# Altium footprint library OSSI.PCBLIB: 194 footprints (part 7 of 13)
Each footprint in its own frame and in the unit in brackets; x right, y up, seen from the top. Pads: shape width x height; smd on the part's side, far side on the other; paste and mask are expansions set on the pad; w line width, h text height; cw(c..) or ccw(c..) is an arc to the next point about the centre after c.
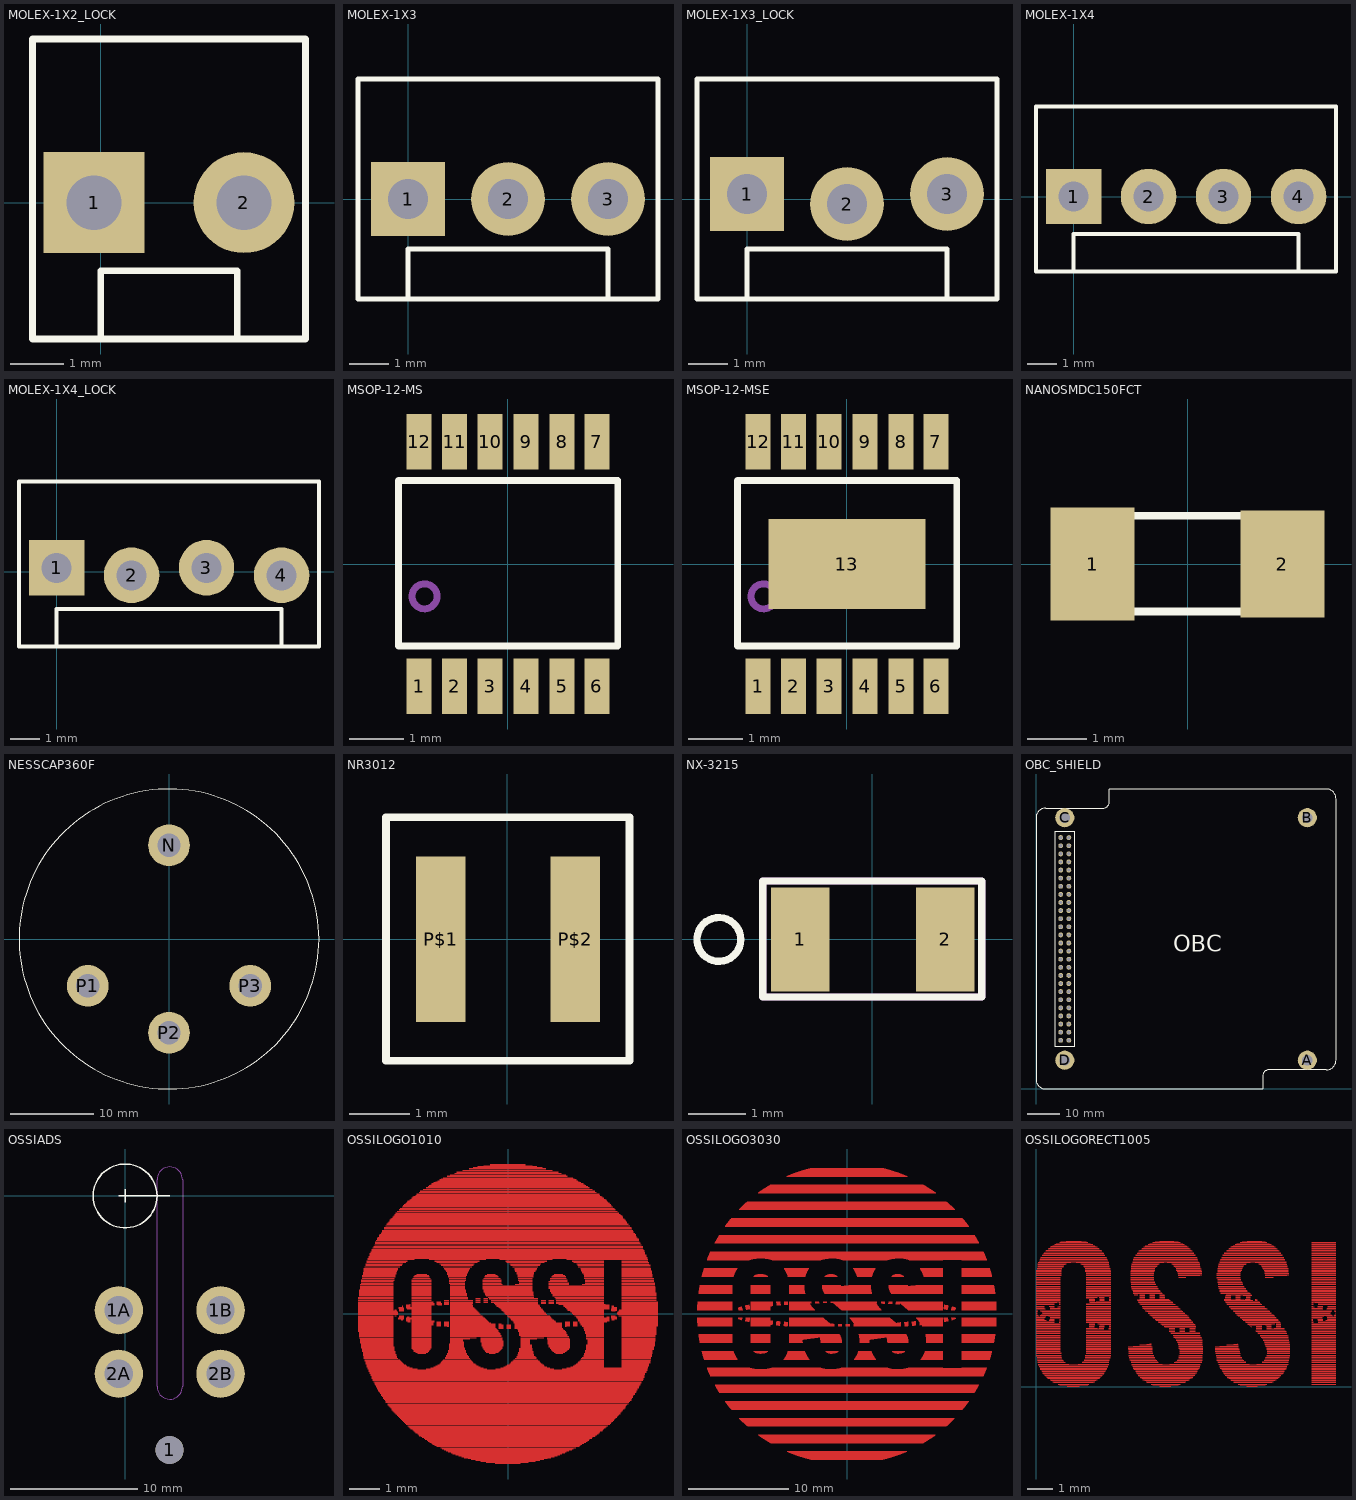
[diagram p6: the footprints below, top view; thin cyan lines are the x and y axes]

## MOLEX-1X2_LOCK [mil]
pads (2):
  rect 74x74 hole 40: 1(-5,0)
  round 74 hole 40: 2(105,0)
Top Overlay:
  lines w5: 0,-100 100,-100 ; 0,-100 -50,-100 -50,120 150,120 150,-100 100,-100 ; 0,-100 0,-50 100,-50 100,-100
Mechanical 16:
  rectangle: -11.5,-11.5 12,12
  rectangle: 89,-11.5 112,12

## MOLEX-1X3 [mil]
pads (3):
  rect 74x74 hole 40: 1(0,0)
  round 74 hole 40: 2(100,0) 3(200,0)
Top Overlay:
  lines w5: 0,-100 200,-100 ; 0,-100 -50,-100 -50,120 250,120 250,-100 200,-100 ; 0,-100 0,-50 200,-50 200,-100

## MOLEX-1X3_LOCK [mil]
pads (3):
  rect 74x74 hole 40: 1(0,5)
  round 74 hole 40: 2(100,-5) 3(200,5)
Top Overlay:
  lines w5: 0,-100 200,-100 ; 0,-100 -50,-100 -50,120 250,120 250,-100 200,-100 ; 0,-100 0,-50 200,-50 200,-100
Mechanical 16:
  rectangle: -11.5,-11.5 12,12
  rectangle: 89,-11.5 112,12
  rectangle: 189,-11.5 212,12

## MOLEX-1X4 [mil]
pads (4):
  rect 74x74 hole 40: 1(0,0)
  round 74 hole 40: 2(100,0) 3(200,0) 4(300,0)
Top Overlay:
  lines w5: 0,-100 300,-100 ; 0,-100 -50,-100 -50,120 350,120 350,-100 300,-100 ; 0,-100 0,-50 300,-50 300,-100

## MOLEX-1X4_LOCK [mil]
pads (4):
  rect 74x74 hole 40: 1(0,5)
  round 74 hole 40: 2(100,-5) 3(200,5) 4(300,-5)
Top Overlay:
  lines w5: 0,-100 300,-100 ; 0,-100 -50,-100 -50,120 350,120 350,-100 300,-100 ; 0,-100 0,-50 300,-50 300,-100

## MSOP-12-MS [mil]
pads (12):
  rect 18x40 smd: 1(-63.98,-87.91) 2(-38.39,-87.91) 3(-12.8,-87.91) 4(13,-87.91) 5(39,-87.91) 6(64,-87.91) 7(64,88) 8(39,88) 9(13,88) 10(-12.8,88) 11(-38.39,88) 12(-63.98,88)
Top Overlay:
  lines w5: -78.74,-59.06 79,-59.06 79,60 -78.74,60 -78.74,-59.06
Mechanical 2:
  text ">NAME" at -98.43,-137.8 h77.5
Mechanical 4:
  circle w5: c-60.04,-23.23 r9
  text ">VALUE" at 138,-137.8 h77.5

## MSOP-12-MSE [mil]
pads (13):
  rect 18x40 smd: 1(-63.98,-87.91) 2(-38.39,-87.91) 3(-12.8,-87.91) 4(13,-87.91) 5(39,-87.91) 6(64,-87.91) 7(64,88) 8(39,88) 9(13,88) 10(-12.8,88) 11(-38.39,88) 12(-63.98,88)
  rect 113x65 smd: 13(0,0)
Top Overlay:
  lines w5: -78.74,-59.06 79,-59.06 79,60 -78.74,60 -78.74,-59.06
Mechanical 2:
  text ">NAME" at -98.43,-137.8 h77.5
Mechanical 4:
  circle w5: c-60.04,-23.23 r9
  text ">VALUE" at 138,-137.8 h77.5

## NANOSMDC150FCT [mil]
pads (2):
  rect 56x75 smd: 1(-62.99,0)
  rect 56x71 smd: 2(63,0)
Top Overlay:
  lines w5: -62.99,-31.5 63,-31.5 63,32 -62.99,32 -62.99,-31.5
Mechanical 2:
  text ">NAME" at -200,-150 h77.5
Mechanical 4:
  text ">VALUE" at -200,-225 h77.5

## NESSCAP360F [mil]
pads (4):
  round 197 hole 111: N(0,443) P1(-383.46,-221.46) P2(0,-442.91) P3(384,-221.46)
Top Overlay:
  circle w5: c0,0 r709
Mechanical 2:
  text ">NAME" at -125,0 h77.5
Mechanical 4:
  text ">VALUE" at -125,-50 h77.5

## NR3012 [mil]
pads (2):
  rect 32x107 smd: P$1(-43.31,0) P$2(44,0)
Top Overlay:
  lines w5: -78.74,-78.74 79,-78.74 79,79 -78.74,79 -78.74,-78.74
Mechanical 2:
  text ">NAME" at -125,100 h77.5
Mechanical 4:
  text ">VALUE" at -125,-150 h77.5

## NX-3215 [mil]
pads (2):
  rect 40x71 smd: 1(-49.21,0) 2(50,0)
Top Overlay:
  circle w5: c-105,0 r15
  lines w5: -75,-39.37 75,-39.37 75,40 -75,40 -75,-39.37
Mechanical 2:
  text ">NAME" at -100,150 h108.5
Mechanical 4:
  text ">VALUE" at -100,75 h108.5
Mechanical 27:
  lines w5: -75,-39.37 75,-39.37 75,40 -75,40 -75,-39.37
Mechanical 28:
  lines w5: -75,-39.37 75,-39.37 75,40 -75,40 -75,-39.37

## OBC_SHIELD [mil]
pads (56):
  round 60 hole 40: 1(405,601) 2(305,601) 3(405,701) 4(305,701) 5(405,801) 6(305,801) 7(405,901) 8(305,901) 9(405,1001) 10(305,1001) 11(405,1101) 12(305,1101) 13(405,1201) 14(305,1201) 15(405,1301) 16(305,1301) 17(405,1401) 18(305,1401) 19(405,1501) 20(305,1501) 21(405,1601) 22(305,1601) 23(405,1701) 24(305,1701) 25(405,1801) 26(305,1801) 27(405,1901) 28(305,1901) 29(405,2001) 30(305,2001) 31(405,2101) 32(305,2101) 33(405,2201) 34(305,2201) 35(405,2301) 36(305,2301) 37(405,2401) 38(305,2401) 39(405,2501) 40(305,2501) 41(405,2601) 42(305,2601) 43(405,2701) 44(305,2701) 45(405,2801) 46(305,2801) 47(405,2901) 48(305,2901) 49(405,3001) 50(305,3001) 51(405,3101) 52(305,3101)
  round 237 hole 126: A(3347,355) B(3347,3347) C(355,3347) D(355,355)
Top Overlay:
  lines w0: 0,119 0,3347 cw(c118.5,3346.5) 119,3465 827,3465 ccw(c827,3544) 906,3544 906,3701 3583,3701 cw(c3583,3583) 3701,3583 3701,355 cw(c3583,355) 3583,237 2875,237 ccw(c2875,158) 2796,158 2796,0 119,0 cw(c119,119) 0,119
  lines w10: 237,521 472,521 472,3181 237,3181 237,521
  text "OBC" at 1693,1693 h201.45

## OSSIADS [mil]
pads (5):
  round 87 hole 87: 1(138,-787.4)
  round 150 hole 87: 1A(-19.68,-354.33) 1B(296,-354.33) 2A(-19.68,-551.18) 2B(296,-551.18)
Top Overlay:
  circle w4: c0,0 r99
  lines w4: -19.68,0 0,0 ; 0,-19.68 0,0 ; 0,20 0,0 ; 138,0 0,0
Mechanical 1:
  lines w0: 99,-590.55 ccw(c138.19,-590.74) 138,-629.92 ccw(c138.31,-590.24) 178,-590.55 178,50 ccw(c138,50) 138,90 ccw(c138.5,50.5) 99,50 99,-590.55
Mechanical 2:
  text ">NAME" at -50,-950 h108.5
Mechanical 4:
  text ">VALUE" at -50,-1050 h108.5

## OSSILOGO1010 [mil]
Top Layer:
  rectangle: -17.61,-197.48 16,-196.22
  rectangle: -28.93,-196.22 27,-194.96
  rectangle: -36.48,-194.96 36,-193.7
  rectangle: -42.77,-193.7 42,-192.45
  rectangle: -49.06,-192.45 47,-191.19
  rectangle: -52.83,-191.19 52,-189.93
  rectangle: -57.86,-189.93 56,-188.67
  rectangle: -61.63,-188.67 61,-187.42
  rectangle: -65.41,-187.42 65,-186.16
  rectangle: -69.18,-186.16 68,-184.9
  rectangle: -72.95,-184.9 71,-183.64
  rectangle: -75.47,-183.64 75,-182.39
  rectangle: -79.24,-182.39 77,-181.13
  rectangle: -81.76,-181.13 80,-179.87
  rectangle: -84.28,-179.87 84,-178.61
  rectangle: -86.79,-178.61 86,-177.35
  rectangle: -89.31,-177.35 89,-176.09
  rectangle: -91.82,-176.09 91,-174.84
  rectangle: -94.34,-174.84 94,-173.58
  rectangle: -96.85,-173.58 95,-172.32
  rectangle: -99.37,-172.32 97,-171.06
  rectangle: -100.63,-171.06 100,-169.81
  rectangle: -103.14,-169.81 102,-168.55
  rectangle: -105.66,-168.55 104,-167.29
  rectangle: -106.92,-167.29 106,-166.04
  rectangle: -109.43,-166.04 107,-164.78
  rectangle: -110.69,-164.78 110,-163.52
  rectangle: -113.2,-163.52 111,-162.26
  rectangle: -114.46,-162.26 114,-161
  rectangle: -116.98,-161 115,-159.74
  rectangle: -118.24,-159.74 117,-158.49
  rectangle: -119.49,-158.49 119,-157.23
  rectangle: -122.01,-157.23 120,-155.97
  rectangle: -123.27,-155.97 121,-154.71
  rectangle: -124.52,-154.71 124,-153.46
  rectangle: -125.78,-153.46 125,-152.2
  rectangle: -128.3,-152.2 126,-150.94
  rectangle: -129.56,-150.94 128,-149.68
  rectangle: -130.81,-149.68 129,-148.43
  rectangle: -132.07,-148.43 131,-147.17
  rectangle: -133.33,-147.17 133,-145.91
  rectangle: -134.59,-145.91 134,-144.65
  rectangle: -135.85,-144.65 135,-143.39
  rectangle: -137.1,-143.39 136,-142.13
  rectangle: -138.36,-142.13 138,-140.88
  rectangle: -139.62,-140.88 139,-139.62
  rectangle: -140.88,-139.62 140,-138.36
  rectangle: -142.13,-138.36 141,-137.1
  rectangle: -143.39,-137.1 143,-135.85
  rectangle: -144.65,-135.85 144,-134.59
  rectangle: -145.91,-134.59 145,-133.33
  rectangle: -147.17,-133.33 146,-132.07
  rectangle: -148.43,-132.07 148,-130.81
  rectangle: -149.68,-130.81 148,-129.56
  rectangle: -150.94,-129.56 149,-128.3
  rectangle: -152.2,-128.3 150,-127.04
  rectangle: -153.46,-127.04 151,-125.78
  rectangle: -153.46,-125.78 153,-124.52
  rectangle: -154.71,-124.52 154,-123.27
  rectangle: -155.97,-123.27 154,-122.01
  rectangle: -157.23,-122.01 155,-120.75
  rectangle: -158.49,-120.75 156,-119.49
  rectangle: -158.49,-119.49 158,-118.24
  rectangle: -159.74,-118.24 159,-116.98
  rectangle: -161,-116.98 159,-115.72
  rectangle: -161,-115.72 160,-114.46
  rectangle: -162.26,-114.46 162,-113.2
  rectangle: -163.52,-113.2 162,-111.95
  rectangle: -164.78,-111.95 163,-110.69
  rectangle: -164.78,-110.69 164,-109.43
  rectangle: -166.04,-109.43 164,-108.17
  rectangle: -167.29,-108.17 165,-106.92
  rectangle: -167.29,-106.92 167,-105.66
  rectangle: -168.55,-105.66 167,-104.4
  rectangle: -168.55,-104.4 168,-103.14
  rectangle: -169.81,-103.14 169,-101.89
  rectangle: -171.06,-101.89 169,-100.63
  rectangle: -171.06,-100.63 170,-99.37
  rectangle: -172.32,-99.37 170,-98.11
  rectangle: -172.32,-98.11 172,-96.85
  rectangle: -173.58,-96.85 172,-95.59
  rectangle: -173.58,-95.59 173,-94.34
  rectangle: -174.84,-94.34 174,-93.08
  rectangle: -176.09,-93.08 174,-91.82
  rectangle: -176.09,-91.82 175,-90.56
  rectangle: -177.35,-90.56 175,-89.31
  rectangle: -177.35,-89.31 177,-88.05
  rectangle: -178.61,-88.05 177,-86.79
  rectangle: -178.61,-86.79 178,-85.53
  rectangle: -179.87,-85.53 178,-84.28
  rectangle: -179.87,-84.28 179,-83.02
  rectangle: -179.87,-83.02 179,-81.76
  rectangle: -181.13,-81.76 179,-80.5
  rectangle: -181.13,-80.5 180,-79.24
  rectangle: -182.39,-79.24 180,-77.98
  rectangle: -182.39,-77.98 182,-76.73
  rectangle: -183.64,-76.73 182,-75.47
  rectangle: -183.64,-75.47 183,-74.21
  rectangle: -183.64,-74.21 183,-72.95
  rectangle: -184.9,-72.95 -119.49,-71.7
  rectangle: -108.17,-72.95 -27.67,-71.7
  rectangle: -16.35,-72.95 60,-71.7
  rectangle: 71,-72.95 183,-71.7
  rectangle: -184.9,-71.7 -125.78,-70.44
  rectangle: -101.89,-71.7 -32.7,-70.44
  rectangle: -10.06,-71.7 55,-70.44
  rectangle: 77,-71.7 184,-70.44
  rectangle: -186.16,-70.44 -129.56,-69.18
  rectangle: -98.11,-70.44 -36.48,-69.18
  rectangle: -6.29,-70.44 51,-69.18
  rectangle: 82,-70.44 126,-69.18
  rectangle: 149,-70.44 184,-69.18
  rectangle: -186.16,-69.18 -133.33,-67.92
  rectangle: -95.59,-69.18 -38.99,-67.92
  rectangle: -3.77,-69.18 48,-67.92
  rectangle: 85,-69.18 126,-67.92
  rectangle: 149,-69.18 185,-67.92
  rectangle: -186.16,-67.92 -134.59,-66.67
  rectangle: -93.08,-67.92 -41.51,-66.67
  rectangle: -1.26,-67.92 47,-66.67
  rectangle: 87,-67.92 126,-66.67
  rectangle: 149,-67.92 185,-66.67
  rectangle: -187.42,-66.67 -137.1,-65.41
  rectangle: -90.56,-66.67 -42.77,-65.41
  rectangle: 2,-66.67 45,-65.41
  rectangle: 89,-66.67 126,-65.41
  rectangle: 149,-66.67 185,-65.41
  rectangle: -187.42,-65.41 -138.36,-64.15
  rectangle: -89.31,-65.41 -45.28,-64.15
  rectangle: 3,-65.41 43,-64.15
  rectangle: 91,-65.41 126,-64.15
  rectangle: 149,-65.41 187,-64.15
  rectangle: -187.42,-64.15 -139.62,-62.89
  rectangle: -88.05,-64.15 -46.54,-62.89
  rectangle: 4,-64.15 42,-62.89
  rectangle: 92,-64.15 126,-62.89
  rectangle: 149,-64.15 187,-62.89
  rectangle: -188.67,-62.89 -140.88,-61.63
  rectangle: -86.79,-62.89 -47.8,-61.63
  rectangle: 6,-62.89 41,-61.63
  rectangle: 94,-62.89 126,-61.63
  rectangle: 149,-62.89 187,-61.63
  rectangle: -188.67,-61.63 -142.13,-60.37
  rectangle: -85.53,-61.63 -49.06,-60.37
  rectangle: 7,-61.63 39,-60.37
  rectangle: 95,-61.63 126,-60.37
  rectangle: 149,-61.63 188,-60.37
  rectangle: -188.67,-60.37 -143.39,-59.12
  rectangle: -84.28,-60.37 -49.06,-59.12
  rectangle: 8,-60.37 38,-59.12
  rectangle: 96,-60.37 126,-59.12
  rectangle: 149,-60.37 188,-59.12
  rectangle: -189.93,-59.12 -144.65,-57.86
  rectangle: -83.02,-59.12 -50.31,-57.86
  rectangle: 9,-59.12 37,-57.86
  rectangle: 96,-59.12 126,-57.86
  rectangle: 149,-59.12 188,-57.86
  rectangle: -189.93,-57.86 -145.91,-56.6
  rectangle: -83.02,-57.86 -51.57,-56.6
  rectangle: 11,-57.86 37,-56.6
  rectangle: 97,-57.86 126,-56.6
  rectangle: 149,-57.86 188,-56.6
  rectangle: -189.93,-56.6 -145.91,-55.35
  rectangle: -81.76,-56.6 -51.57,-55.35
  rectangle: 11,-56.6 36,-55.35
  rectangle: 99,-56.6 126,-55.35
  rectangle: 149,-56.6 189,-55.35
  rectangle: -191.19,-55.35 -147.17,-54.09
  rectangle: -81.76,-55.35 -52.83,-54.09
  rectangle: 12,-55.35 34,-54.09
  rectangle: 99,-55.35 126,-54.09
  rectangle: 149,-55.35 189,-54.09
  rectangle: -191.19,-54.09 -147.17,-52.83
  rectangle: -80.5,-54.09 -54.09,-52.83
  rectangle: 12,-54.09 34,-52.83
  rectangle: 100,-54.09 126,-52.83
  rectangle: 149,-54.09 189,-52.83
  rectangle: -191.19,-52.83 -148.43,-51.57
  rectangle: -119.49,-52.83 -108.17,-51.57
  rectangle: -80.5,-52.83 -54.09,-51.57
  rectangle: -25.16,-52.83 -16.35,-51.57
  rectangle: 13,-52.83 33,-51.57
  rectangle: 62,-52.83 72,-51.57
  rectangle: 100,-52.83 126,-51.57
  rectangle: 149,-52.83 190,-51.57
  rectangle: -191.19,-51.57 -148.43,-50.31
  rectangle: -122.01,-51.57 -105.66,-50.31
  rectangle: -79.24,-51.57 -55.35,-50.31
  rectangle: -28.93,-51.57 -12.58,-50.31
  rectangle: 13,-51.57 33,-50.31
  rectangle: 60,-51.57 75,-50.31
  rectangle: 101,-51.57 126,-50.31
  rectangle: 149,-51.57 190,-50.31
  rectangle: -192.45,-50.31 -148.43,-49.06
  rectangle: -124.52,-50.31 -104.4,-49.06
  rectangle: -79.24,-50.31 -55.35,-49.06
  rectangle: -30.19,-50.31 -11.32,-49.06
  rectangle: 14,-50.31 33,-49.06
  rectangle: 58,-50.31 77,-49.06
  rectangle: 101,-50.31 126,-49.06
  rectangle: 149,-50.31 190,-49.06
  rectangle: -192.45,-49.06 -149.68,-47.8
  rectangle: -124.52,-49.06 -103.14,-47.8
  rectangle: -79.24,-49.06 -55.35,-47.8
  rectangle: -31.44,-49.06 -10.06,-47.8
  rectangle: 14,-49.06 32,-47.8
  rectangle: 57,-49.06 78,-47.8
  rectangle: 101,-49.06 126,-47.8
  rectangle: 149,-49.06 190,-47.8
  rectangle: -192.45,-47.8 -149.68,-46.54
  rectangle: -125.78,-47.8 -101.89,-46.54
  rectangle: -77.98,-47.8 -56.6,-46.54
  rectangle: -32.7,-47.8 -8.8,-46.54
  rectangle: 14,-47.8 32,-46.54
  rectangle: 56,-47.8 80,-46.54
  rectangle: 102,-47.8 126,-46.54
  rectangle: 149,-47.8 192,-46.54
  rectangle: -192.45,-46.54 -149.68,-45.28
  rectangle: -127.04,-46.54 -101.89,-45.28
  rectangle: -77.98,-46.54 -56.6,-45.28
  rectangle: -32.7,-46.54 -7.55,-45.28
  rectangle: 14,-46.54 32,-45.28
  rectangle: 55,-46.54 80,-45.28
  rectangle: 102,-46.54 126,-45.28
  rectangle: 149,-46.54 192,-45.28
  rectangle: -193.7,-45.28 -149.68,-44.02
  rectangle: -127.04,-45.28 -100.63,-44.02
  rectangle: -77.98,-45.28 -56.6,-44.02
  rectangle: -33.96,-45.28 -7.55,-44.02
  rectangle: 16,-45.28 31,-44.02
  rectangle: 55,-45.28 81,-44.02
  rectangle: 102,-45.28 126,-44.02
  rectangle: 149,-45.28 192,-44.02
  rectangle: -193.7,-44.02 -149.68,-42.77
  rectangle: -127.04,-44.02 -100.63,-42.77
  rectangle: -77.98,-44.02 -57.86,-42.77
  rectangle: -33.96,-44.02 -7.55,-42.77
  rectangle: 16,-44.02 31,-42.77
  rectangle: 53,-44.02 81,-42.77
  rectangle: 102,-44.02 126,-42.77
  rectangle: 149,-44.02 192,-42.77
  rectangle: -193.7,-42.77 -150.94,-41.51
  rectangle: -127.04,-42.77 -100.63,-41.51
  rectangle: -77.98,-42.77 -57.86,-41.51
  rectangle: -35.22,-42.77 -6.29,-41.51
  rectangle: 16,-42.77 31,-41.51
  rectangle: 53,-42.77 81,-41.51
  rectangle: 102,-42.77 126,-41.51
  rectangle: 149,-42.77 193,-41.51
  rectangle: -193.7,-41.51 -150.94,-40.25
  rectangle: -127.04,-41.51 -100.63,-40.25
  rectangle: -77.98,-41.51 -57.86,-40.25
  rectangle: -35.22,-41.51 -6.29,-40.25
  rectangle: 16,-41.51 31,-40.25
  rectangle: 53,-41.51 81,-40.25
  rectangle: 102,-41.51 126,-40.25
  rectangle: 149,-41.51 193,-40.25
  rectangle: -193.7,-40.25 -150.94,-38.99
  rectangle: -127.04,-40.25 -100.63,-38.99
  rectangle: -77.98,-40.25 -57.86,-38.99
  rectangle: -35.22,-40.25 -6.29,-38.99
  rectangle: 16,-40.25 29,-38.99
  rectangle: 52,-40.25 81,-38.99
  rectangle: 104,-40.25 126,-38.99
  rectangle: 149,-40.25 193,-38.99
  rectangle: -194.96,-38.99 -150.94,-37.74
  rectangle: -127.04,-38.99 -100.63,-37.74
  rectangle: -76.73,-38.99 -57.86,-37.74
  rectangle: -35.22,-38.99 -6.29,-37.74
  rectangle: 16,-38.99 29,-37.74
  rectangle: 52,-38.99 81,-37.74
  rectangle: 104,-38.99 126,-37.74
  rectangle: 149,-38.99 193,-37.74
  rectangle: -194.96,-37.74 -150.94,-36.48
  rectangle: -127.04,-37.74 -100.63,-36.48
  rectangle: -76.73,-37.74 -57.86,-36.48
  rectangle: -36.48,-37.74 -6.29,-36.48
  rectangle: 16,-37.74 29,-36.48
  rectangle: 52,-37.74 81,-36.48
  rectangle: 104,-37.74 126,-36.48
  rectangle: 149,-37.74 193,-36.48
  rectangle: -194.96,-36.48 -150.94,-35.22
  rectangle: -127.04,-36.48 -100.63,-35.22
  rectangle: -76.73,-36.48 -59.12,-35.22
  rectangle: -36.48,-36.48 -6.29,-35.22
  rectangle: 16,-36.48 29,-35.22
  rectangle: 52,-36.48 81,-35.22
  rectangle: 104,-36.48 126,-35.22
  rectangle: 149,-36.48 194,-35.22
  rectangle: -194.96,-35.22 -150.94,-33.96
  rectangle: -127.04,-35.22 -100.63,-33.96
  rectangle: -76.73,-35.22 -59.12,-33.96
  rectangle: -36.48,-35.22 -7.55,-33.96
  rectangle: 16,-35.22 29,-33.96
  rectangle: 52,-35.22 81,-33.96
  rectangle: 104,-35.22 126,-33.96
  rectangle: 149,-35.22 194,-33.96
  rectangle: -194.96,-33.96 -150.94,-32.7
  rectangle: -127.04,-33.96 -100.63,-32.7
  rectangle: -76.73,-33.96 -50.31,-32.7
  rectangle: -36.48,-33.96 -7.55,-32.7
  rectangle: 16,-33.96 38,-32.7
  rectangle: 51,-33.96 81,-32.7
  rectangle: 102,-33.96 126,-32.7
  rectangle: 149,-33.96 194,-32.7
  rectangle: -196.22,-32.7 -150.94,-31.44
  rectangle: -127.04,-32.7 -100.63,-31.44
  rectangle: -76.73,-32.7 -41.51,-31.44
  rectangle: -36.48,-32.7 -7.55,-31.44
  rectangle: 16,-32.7 47,-31.44
  rectangle: 51,-32.7 80,-31.44
  rectangle: 102,-32.7 126,-31.44
  rectangle: 149,-32.7 194,-31.44
  rectangle: -196.22,-31.44 -150.94,-30.19
  rectangle: -127.04,-31.44 -100.63,-30.19
  rectangle: -76.73,-31.44 -7.55,-30.19
  rectangle: 16,-31.44 80,-30.19
  rectangle: 102,-31.44 126,-30.19
  rectangle: 149,-31.44 194,-30.19
  rectangle: -196.22,-30.19 -150.94,-28.93
  rectangle: -127.04,-30.19 -100.63,-28.93
  rectangle: -76.73,-30.19 -8.8,-28.93
  rectangle: 16,-30.19 80,-28.93
  rectangle: 102,-30.19 126,-28.93
  rectangle: 149,-30.19 194,-28.93
  rectangle: -196.22,-28.93 -150.94,-27.67
  rectangle: -127.04,-28.93 -100.63,-27.67
  rectangle: -76.73,-28.93 -8.8,-27.67
  rectangle: 14,-28.93 78,-27.67
  rectangle: 102,-28.93 126,-27.67
  rectangle: 149,-28.93 194,-27.67
  rectangle: -196.22,-27.67 -150.94,-26.41
  rectangle: -127.04,-27.67 -100.63,-26.41
  rectangle: -76.73,-27.67 -10.06,-26.41
  rectangle: 14,-27.67 78,-26.41
  rectangle: 102,-27.67 126,-26.41
  rectangle: 149,-27.67 195,-26.41
  rectangle: -196.22,-26.41 -150.94,-25.16
  rectangle: -127.04,-26.41 -100.63,-25.16
  rectangle: -76.73,-26.41 -10.06,-25.16
  rectangle: 14,-26.41 77,-25.16
  rectangle: 101,-26.41 126,-25.16
  rectangle: 149,-26.41 195,-25.16
  rectangle: -196.22,-25.16 -150.94,-23.9
  rectangle: -127.04,-25.16 -100.63,-23.9
  rectangle: -76.73,-25.16 -11.32,-23.9
  rectangle: 14,-25.16 77,-23.9
  rectangle: 101,-25.16 126,-23.9
  rectangle: 149,-25.16 195,-23.9
  rectangle: -197.48,-23.9 -150.94,-22.64
  rectangle: -127.04,-23.9 -100.63,-22.64
  rectangle: -76.73,-23.9 -12.58,-22.64
  rectangle: 13,-23.9 76,-22.64
  rectangle: 101,-23.9 126,-22.64
  rectangle: 149,-23.9 195,-22.64
  rectangle: -197.48,-22.64 -150.94,-21.38
  rectangle: -127.04,-22.64 -100.63,-21.38
  rectangle: -76.73,-22.64 -12.58,-21.38
  rectangle: 13,-22.64 75,-21.38
  rectangle: 100,-22.64 126,-21.38
  rectangle: 149,-22.64 195,-21.38
  rectangle: -197.48,-21.38 -150.94,-20.13
  rectangle: -127.04,-21.38 -100.63,-20.13
  rectangle: -76.73,-21.38 -13.83,-20.13
  rectangle: 12,-21.38 73,-20.13
  rectangle: 100,-21.38 126,-20.13
  rectangle: 149,-21.38 195,-20.13
  rectangle: -197.48,-20.13 -150.94,-18.87
  rectangle: -127.04,-20.13 -100.63,-18.87
  rectangle: -76.73,-20.13 -15.09,-18.87
  rectangle: -12.58,-20.13 -6.29,-18.87
  rectangle: -2.52,-20.13 4,-18.87
  rectangle: 8,-20.13 72,-18.87
  rectangle: 99,-20.13 126,-18.87
  rectangle: 149,-20.13 195,-18.87
  rectangle: -197.48,-18.87 -150.94,-17.61
  rectangle: -127.04,-18.87 -100.63,-17.61
  rectangle: -76.73,-18.87 -16.35,-17.61
  rectangle: -12.58,-18.87 -6.29,-17.61
  rectangle: -2.52,-18.87 4,-17.61
  rectangle: 8,-18.87 71,-17.61
  rectangle: 99,-18.87 126,-17.61
  rectangle: 149,-18.87 195,-17.61
  rectangle: -197.48,-17.61 -150.94,-16.35
  rectangle: -127.04,-17.61 -100.63,-16.35
  rectangle: -80.5,-17.61 -77.98,-16.35
  rectangle: -76.73,-17.61 -16.35,-16.35
  rectangle: -12.58,-17.61 -6.29,-16.35
  rectangle: -2.52,-17.61 4,-16.35
  rectangle: 8,-17.61 71,-16.35
  rectangle: 75,-17.61 77,-16.35
  rectangle: 97,-17.61 126,-16.35
  rectangle: 149,-17.61 195,-16.35
  rectangle: -197.48,-16.35 -150.94,-15.09
  rectangle: -127.04,-16.35 -100.63,-15.09
  rectangle: -94.34,-16.35 -88.05,-15.09
  rectangle: -84.28,-16.35 -77.98,-15.09
  rectangle: -76.73,-16.35 -16.35,-15.09
  rectangle: -12.58,-16.35 -6.29,-15.09
  rectangle: -2.52,-16.35 4,-15.09
  rectangle: 8,-16.35 71,-15.09
  rectangle: 75,-16.35 81,-15.09
  rectangle: 85,-16.35 91,-15.09
  rectangle: 97,-16.35 126,-15.09
  rectangle: 149,-16.35 197,-15.09
  rectangle: -197.48,-15.09 -150.94,-13.83
  rectangle: -127.04,-15.09 -98.11,-13.83
  rectangle: -94.34,-15.09 -88.05,-13.83
  rectangle: -84.28,-15.09 -77.98,-13.83
  rectangle: -76.73,-15.09 -16.35,-13.83
  rectangle: -12.58,-15.09 -6.29,-13.83
  rectangle: -2.52,-15.09 4,-13.83
  rectangle: 8,-15.09 71,-13.83
  rectangle: 75,-15.09 81,-13.83
  rectangle: 85,-15.09 91,-13.83
  rectangle: 95,-15.09 126,-13.83
  rectangle: 149,-15.09 197,-13.83
  rectangle: -197.48,-13.83 -150.94,-12.58
  rectangle: -127.04,-13.83 -98.11,-12.58
  rectangle: -94.34,-13.83 -88.05,-12.58
  rectangle: -84.28,-13.83 -77.98,-12.58
  rectangle: -76.73,-13.83 -16.35,-12.58
  rectangle: -12.58,-13.83 -8.8,-12.58
  rectangle: 8,-13.83 71,-12.58
  rectangle: 75,-13.83 81,-12.58
  rectangle: 85,-13.83 91,-12.58
  rectangle: 95,-13.83 126,-12.58
  rectangle: 149,-13.83 197,-12.58
  rectangle: -197.48,-12.58 -150.94,-11.32
  rectangle: -127.04,-12.58 -98.11,-11.32
  rectangle: -94.34,-12.58 -88.05,-11.32
  rectangle: -84.28,-12.58 -77.98,-11.32
  rectangle: -76.73,-12.58 -22.64,-11.32
  rectangle: 7,-12.58 71,-11.32
  rectangle: 75,-12.58 81,-11.32
  rectangle: 85,-12.58 91,-11.32
  rectangle: 94,-12.58 126,-11.32
  rectangle: 149,-12.58 197,-11.32
  rectangle: -197.48,-11.32 -150.94,-10.06
  rectangle: -132.07,-11.32 -128.3,-10.06
  rectangle: -127.04,-11.32 -96.85,-10.06
  rectangle: -94.34,-11.32 -88.05,-10.06
  rectangle: -84.28,-11.32 -77.98,-10.06
  rectangle: -76.73,-11.32 -25.16,-10.06
  rectangle: 7,-11.32 63,-10.06
  rectangle: 75,-11.32 81,-10.06
  rectangle: 85,-11.32 91,-10.06
  rectangle: 94,-11.32 130,-10.06
  rectangle: 149,-11.32 197,-10.06
  rectangle: -197.48,-10.06 -150.94,-8.8
  rectangle: -134.59,-10.06 -128.3,-8.8
  rectangle: -127.04,-10.06 -96.85,-8.8
  rectangle: -76.73,-10.06 -26.41,-8.8
  rectangle: 6,-10.06 62,-8.8
  rectangle: 92,-10.06 133,-8.8
  rectangle: 149,-10.06 197,-8.8
  rectangle: -197.48,-8.8 -150.94,-7.55
  rectangle: -140.88,-8.8 -138.36,-7.55
  rectangle: -134.59,-8.8 -128.3,-7.55
  rectangle: -127.04,-8.8 -100.63,-7.55
  rectangle: -76.73,-8.8 -27.67,-7.55
  rectangle: 4,-8.8 60,-7.55
  rectangle: 92,-8.8 133,-7.55
  rectangle: 136,-8.8 140,-7.55
  rectangle: 149,-8.8 197,-7.55
  rectangle: -197.48,-7.55 -150.94,-6.29
  rectangle: -144.65,-7.55 -137.1,-6.29
  rectangle: -134.59,-7.55 -100.63,-6.29
  rectangle: -76.73,-7.55 -28.93,-6.29
  rectangle: 3,-7.55 58,-6.29
  rectangle: 91,-7.55 133,-6.29
  rectangle: 136,-7.55 143,-6.29
  rectangle: 149,-7.55 197,-6.29
  rectangle: -197.48,-6.29 -150.94,-5.03
  rectangle: -144.65,-6.29 -137.1,-5.03
  rectangle: -134.59,-6.29 -100.63,-5.03
  rectangle: -76.73,-6.29 -30.19,-5.03
  rectangle: 2,-6.29 57,-5.03
  rectangle: 90,-6.29 133,-5.03
  rectangle: 135,-6.29 143,-5.03
  rectangle: 149,-6.29 197,-5.03
  rectangle: -197.48,-5.03 -150.94,-3.77
  rectangle: -143.39,-5.03 -137.1,-3.77
  rectangle: -133.33,-5.03 -129.56,-3.77
  rectangle: -127.04,-5.03 -100.63,-3.77
  rectangle: -76.73,-5.03 -32.7,-3.77
  rectangle: 0,-5.03 56,-3.77
  rectangle: 89,-5.03 126,-3.77
  rectangle: 129,-5.03 133,-3.77
  rectangle: 135,-5.03 143,-3.77
  rectangle: 149,-5.03 197,-3.77
  rectangle: -197.48,-3.77 -150.94,-2.52
  rectangle: -149.68,-3.77 -147.17,-2.52
  rectangle: -143.39,-3.77 -137.1,-2.52
  rectangle: -127.04,-3.77 -100.63,-2.52
  rectangle: -76.73,-3.77 -33.96,-2.52
  rectangle: -1.26,-3.77 55,-2.52
  rectangle: 87,-3.77 126,-2.52
  rectangle: 135,-3.77 141,-2.52
  rectangle: 145,-3.77 197,-2.52
  rectangle: -197.48,-2.52 -145.91,-1.26
  rectangle: -143.39,-2.52 -138.36,-1.26
  rectangle: -127.04,-2.52 -100.63,-1.26
  rectangle: -76.73,-2.52 -35.22,-1.26
  rectangle: -2.52,-2.52 53,-1.26
  rectangle: 86,-2.52 126,-1.26
  rectangle: 138,-2.52 141,-1.26
  rectangle: 144,-2.52 197,-1.26
  rectangle: -197.48,-1.26 -144.65,0
  rectangle: -127.04,-1.26 -100.63,0
  rectangle: -76.73,-1.26 -36.48,0
  rectangle: -3.77,-1.26 51,0
  rectangle: 85,-1.26 126,0
  rectangle: 144,-1.26 197,0
  rectangle: -197.48,0 -144.65,2
  rectangle: -127.04,0 -100.63,2
  rectangle: -76.73,0 -37.74,2
  rectangle: -5.03,0 50,2
  rectangle: 84,0 126,2
  rectangle: 143,0 197,2
  rectangle: -197.48,2 -144.65,3
  rectangle: -127.04,2 -100.63,3
  rectangle: -76.73,2 -38.99,3
  rectangle: -6.29,2 48,3
  rectangle: 82,2 126,3
  rectangle: 144,2 197,3
  rectangle: -197.48,3 -145.91,4
  rectangle: -143.39,3 -137.1,4
  rectangle: -127.04,3 -100.63,4
  rectangle: -76.73,3 -40.25,4
  rectangle: -7.55,3 47,4
  rectangle: 81,3 126,4
  rectangle: 136,3 141,4
  rectangle: 145,3 197,4
  rectangle: -197.48,4 -150.94,6
  rectangle: -149.68,4 -147.17,6
  rectangle: -143.39,4 -137.1,6
  rectangle: -127.04,4 -100.63,6
  rectangle: -76.73,4 -41.51,6
  rectangle: -8.8,4 46,6
  rectangle: 78,4 126,6
  rectangle: 135,4 143,6
  rectangle: 146,4 197,6
  rectangle: -197.48,6 -150.94,7
  rectangle: -143.39,6 -137.1,7
  rectangle: -133.33,6 -100.63,7
  rectangle: -76.73,6 -42.77,7
  rectangle: -10.06,6 45,7
  rectangle: 77,6 133,7
  rectangle: 135,6 143,7
  rectangle: 149,6 197,7
  rectangle: -197.48,7 -150.94,8
  rectangle: -144.65,7 -137.1,8
  rectangle: -134.59,7 -100.63,8
  rectangle: -76.73,7 -44.02,8
  rectangle: -11.32,7 43,8
  rectangle: 76,7 133,8
  rectangle: 136,7 143,8
  rectangle: 149,7 197,8
  rectangle: -197.48,8 -150.94,9
  rectangle: -143.39,8 -138.36,9
  rectangle: -134.59,8 -100.63,9
  rectangle: -76.73,8 -45.28,9
  rectangle: -12.58,8 43,9
  rectangle: 75,8 133,9
  rectangle: 136,8 143,9
  rectangle: 149,8 197,9
  rectangle: -197.48,9 -150.94,11
  rectangle: -139.62,9 -138.36,11
  rectangle: -134.59,9 -128.3,11
  rectangle: -127.04,9 -100.63,11
  rectangle: -76.73,9 -46.54,11
  rectangle: -15.09,9 42,11
  rectangle: 73,9 133,11
  rectangle: 136,9 139,11
  rectangle: 149,9 197,11
  rectangle: -197.48,11 -150.94,12
  rectangle: -134.59,11 -128.3,12
  rectangle: -127.04,11 -96.85,12
  rectangle: -93.08,11 -86.79,12
  rectangle: -76.73,11 -46.54,12
  rectangle: -16.35,11 41,12
  rectangle: 72,11 133,12
  rectangle: 149,11 197,12
  rectangle: -197.48,12 -150.94,13
  rectangle: -129.56,12 -128.3,13
  rectangle: -127.04,12 -96.85,13
  rectangle: -94.34,12 -86.79,13
  rectangle: -84.28,12 -77.98,13
  rectangle: -76.73,12 -47.8,13
  rectangle: -17.61,12 39,13
  rectangle: 66,12 128,13
  rectangle: 149,12 197,13
  rectangle: -197.48,13 -150.94,14
  rectangle: -127.04,13 -96.85,14
  rectangle: -94.34,13 -86.79,14
  rectangle: -84.28,13 -77.98,14
  rectangle: -76.73,13 -46.54,14
  rectangle: -18.87,13 39,14
  rectangle: 43,13 50,14
  rectangle: 53,13 60,14
  rectangle: 63,13 126,14
  rectangle: 149,13 197,14
  rectangle: -197.48,14 -150.94,16
  rectangle: -127.04,14 -98.11,16
  rectangle: -94.34,14 -88.05,16
  rectangle: -84.28,14 -77.98,16
  rectangle: -76.73,14 -46.54,16
  rectangle: -42.77,14 -36.48,16
  rectangle: -32.7,14 -26.41,16
  rectangle: -22.64,14 39,16
  rectangle: 43,14 50,16
  rectangle: 53,14 60,16
  rectangle: 63,14 126,16
  rectangle: 149,14 197,16
  rectangle: -197.48,16 -150.94,17
  rectangle: -127.04,16 -98.11,17
  rectangle: -94.34,16 -88.05,17
  rectangle: -84.28,16 -77.98,17
  rectangle: -76.73,16 -46.54,17
  rectangle: -42.77,16 -36.48,17
  rectangle: -32.7,16 -26.41,17
  rectangle: -22.64,16 39,17
  rectangle: 43,16 50,17
  rectangle: 53,16 60,17
  rectangle: 63,16 126,17
  rectangle: 149,16 197,17
  rectangle: -197.48,17 -150.94,18
  rectangle: -127.04,17 -100.63,18
  rectangle: -84.28,17 -77.98,18
  rectangle: -76.73,17 -46.54,18
  rectangle: -42.77,17 -36.48,18
  rectangle: -32.7,17 -26.41,18
  rectangle: -22.64,17 39,18
  rectangle: 43,17 50,18
  rectangle: 53,17 60,18
  rectangle: 63,17 126,18
  rectangle: 149,17 195,18
  rectangle: -197.48,18 -150.94,19
  rectangle: -127.04,18 -100.63,19
  rectangle: -76.73,18 -46.54,19
  rectangle: -42.77,18 -36.48,19
  rectangle: -32.7,18 -26.41,19
  rectangle: -23.9,18 39,19
  rectangle: 43,18 50,19
  rectangle: 53,18 60,19
  rectangle: 63,18 126,19
  rectangle: 149,18 195,19
  rectangle: -197.48,19 -150.94,21
  rectangle: -127.04,19 -100.63,21
  rectangle: -76.73,19 -52.83,21
  rectangle: -42.77,19 -36.48,21
  rectangle: -32.7,19 -26.41,21
  rectangle: -25.16,19 39,21
  rectangle: 62,19 126,21
  rectangle: 149,19 195,21
  rectangle: -197.48,21 -150.94,22
  rectangle: -127.04,21 -100.63,22
  rectangle: -76.73,21 -52.83,22
  rectangle: -26.41,21 34,22
  rectangle: 61,21 126,22
  rectangle: 149,21 195,22
  rectangle: -197.48,22 -150.94,23
  rectangle: -127.04,22 -100.63,23
  rectangle: -76.73,22 -52.83,23
  rectangle: -27.67,22 34,23
  rectangle: 60,22 126,23
  rectangle: 149,22 195,23
  rectangle: -196.22,23 -150.94,24
  rectangle: -127.04,23 -100.63,24
  rectangle: -76.73,23 -54.09,24
  rectangle: -28.93,23 34,24
  rectangle: 58,23 126,24
  rectangle: 149,23 195,24
  rectangle: -196.22,24 -150.94,26
  rectangle: -127.04,24 -100.63,26
  rectangle: -76.73,24 -54.09,26
  rectangle: -30.19,24 33,26
  rectangle: 58,24 126,26
  rectangle: 149,24 195,26
  rectangle: -196.22,26 -150.94,27
  rectangle: -127.04,26 -100.63,27
  rectangle: -76.73,26 -54.09,27
  rectangle: -30.19,26 33,27
  rectangle: 57,26 126,27
  rectangle: 149,26 195,27
  rectangle: -196.22,27 -150.94,28
  rectangle: -127.04,27 -100.63,28
  rectangle: -76.73,27 -55.35,28
  rectangle: -31.44,27 33,28
  rectangle: 56,27 126,28
  rectangle: 149,27 195,28
  rectangle: -196.22,28 -150.94,29
  rectangle: -127.04,28 -100.63,29
  rectangle: -76.73,28 -55.35,29
  rectangle: -32.7,28 33,29
  rectangle: 56,28 126,29
  rectangle: 149,28 194,29
  rectangle: -196.22,29 -150.94,31
  rectangle: -127.04,29 -100.63,31
  rectangle: -76.73,29 -55.35,31
  rectangle: -32.7,29 32,31
  rectangle: 55,29 126,31
  rectangle: 149,29 194,31
  rectangle: -196.22,31 -150.94,32
  rectangle: -127.04,31 -100.63,32
  rectangle: -76.73,31 -55.35,32
  rectangle: -32.7,31 32,32
  rectangle: 55,31 126,32
  rectangle: 149,31 194,32
  rectangle: -194.96,32 -150.94,33
  rectangle: -127.04,32 -100.63,33
  rectangle: -76.73,32 -56.6,33
  rectangle: -33.96,32 32,33
  rectangle: 55,32 126,33
  rectangle: 149,32 194,33
  rectangle: -194.96,33 -150.94,34
  rectangle: -127.04,33 -100.63,34
  rectangle: -76.73,33 -56.6,34
  rectangle: -33.96,33 32,34
  rectangle: 53,33 126,34
  rectangle: 149,33 194,34
  rectangle: -194.96,34 -150.94,36
  rectangle: -127.04,34 -100.63,36
  rectangle: -76.73,34 -56.6,36
  rectangle: -33.96,34 32,36
  rectangle: 53,34 126,36
  rectangle: 149,34 194,36
  rectangle: -194.96,36 -150.94,37
  rectangle: -127.04,36 -100.63,37
  rectangle: -76.73,36 -56.6,37
  rectangle: -33.96,36 32,37
  rectangle: 53,36 126,37
  rectangle: 149,36 193,37
  rectangle: -194.96,37 -150.94,38
  rectangle: -127.04,37 -100.63,38
  rectangle: -76.73,37 -56.6,38
  rectangle: -33.96,37 -7.55,38
  rectangle: -2.52,37 32,38
  rectangle: 53,37 80,38
  rectangle: 86,37 126,38
  rectangle: 149,37 193,38
  rectangle: -194.96,38 -150.94,39
  rectangle: -127.04,38 -100.63,39
  rectangle: -76.73,38 -56.6,39
  rectangle: -33.96,38 -7.55,39
  rectangle: 9,38 32,39
  rectangle: 53,38 80,39
  rectangle: 97,38 126,39
  rectangle: 149,38 193,39
  rectangle: -193.7,39 -150.94,41
  rectangle: -127.04,39 -100.63,41
  rectangle: -77.98,39 -56.6,41
  rectangle: -33.96,39 -8.8,41
  rectangle: 14,39 32,41
  rectangle: 53,39 80,41
  rectangle: 101,39 126,41
  rectangle: 149,39 193,41
  rectangle: -193.7,41 -150.94,42
  rectangle: -127.04,41 -100.63,42
  rectangle: -77.98,41 -56.6,42
  rectangle: -33.96,41 -8.8,42
  rectangle: 14,41 32,42
  rectangle: 53,41 80,42
  rectangle: 101,41 126,42
  rectangle: 149,41 193,42
  rectangle: -193.7,42 -150.94,43
  rectangle: -127.04,42 -100.63,43
  rectangle: -77.98,42 -56.6,43
  rectangle: -33.96,42 -8.8,43
  rectangle: 14,42 32,43
  rectangle: 53,42 78,43
  rectangle: 101,42 126,43
  rectangle: 149,42 192,43
  rectangle: -193.7,43 -149.68,45
  rectangle: -127.04,43 -100.63,45
  rectangle: -77.98,43 -55.35,45
  rectangle: -33.96,43 -8.8,45
  rectangle: 13,43 32,45
  rectangle: 55,43 78,45
  rectangle: 101,43 126,45
  rectangle: 149,43 192,45
  rectangle: -193.7,45 -149.68,46
  rectangle: -127.04,45 -101.89,46
  rectangle: -77.98,45 -55.35,46
  rectangle: -33.96,45 -10.06,46
  rectangle: 13,45 32,46
  rectangle: 55,45 78,46
  rectangle: 101,45 126,46
  rectangle: 149,45 192,46
  rectangle: -192.45,46 -149.68,47
  rectangle: -125.78,46 -101.89,47
  rectangle: -77.98,46 -55.35,47
  rectangle: -32.7,46 -10.06,47
  rectangle: 13,46 32,47
  rectangle: 55,46 77,47
  rectangle: 100,46 126,47
  rectangle: 149,46 192,47
  rectangle: -192.45,47 -149.68,48
  rectangle: -125.78,47 -103.14,48
  rectangle: -79.24,47 -55.35,48
  rectangle: -32.7,47 -11.32,48
  rectangle: 13,47 33,48
  rectangle: 56,47 76,48
  rectangle: 100,47 126,48
  rectangle: 149,47 192,48
  rectangle: -192.45,48 -148.43,50
  rectangle: -124.52,48 -103.14,50
  rectangle: -79.24,48 -55.35,50
  rectangle: -31.44,48 -12.58,50
  rectangle: 12,48 33,50
  rectangle: 57,48 76,50
  rectangle: 100,48 126,50
  rectangle: 149,48 190,50
  rectangle: -192.45,50 -148.43,51
  rectangle: -123.27,50 -104.4,51
  rectangle: -79.24,50 -54.09,51
  rectangle: -30.19,50 -13.83,51
  rectangle: 12,50 33,51
  rectangle: 58,50 75,51
  rectangle: 100,50 126,51
  rectangle: 149,50 190,51
  rectangle: -191.19,51 -148.43,52
  rectangle: -120.75,51 -106.92,52
  rectangle: -80.5,51 -54.09,52
  rectangle: -27.67,51 -16.35,52
  rectangle: 12,51 33,52
  rectangle: 60,51 72,52
  rectangle: 99,51 126,52
  rectangle: 149,51 190,52
  rectangle: -191.19,52 -147.17,53
  rectangle: -80.5,52 -54.09,53
  rectangle: 11,52 34,53
  rectangle: 99,52 126,53
  rectangle: 149,52 189,53
  rectangle: -191.19,53 -147.17,55
  rectangle: -80.5,53 -52.83,55
  rectangle: 11,53 34,55
  rectangle: 97,53 126,55
  rectangle: 149,53 189,55
  rectangle: -189.93,55 -145.91,56
  rectangle: -81.76,55 -52.83,56
  rectangle: 9,55 36,56
  rectangle: 97,55 126,56
  rectangle: 149,55 189,56
  rectangle: -189.93,56 -145.91,57
  rectangle: -81.76,56 -51.57,57
  rectangle: 9,56 36,57
  rectangle: 96,56 126,57
  rectangle: 149,56 189,57
  rectangle: -189.93,57 -144.65,58
  rectangle: -83.02,57 -51.57,58
  rectangle: 8,57 37,58
  rectangle: 96,57 126,58
  rectangle: 149,57 188,58
  rectangle: -189.93,58 -144.65,60
  rectangle: -84.28,58 -50.31,60
  rectangle: 8,58 38,60
  rectangle: 95,58 126,60
  rectangle: 149,58 188,60
  rectangle: -188.67,60 -143.39,61
  rectangle: -85.53,60 -49.06,61
  rectangle: 7,60 38,61
  rectangle: 94,60 126,61
  rectangle: 149,60 188,61
  rectangle: -188.67,61 -142.13,62
  rectangle: -85.53,61 -47.8,62
  rectangle: 6,61 39,62
  rectangle: 92,61 126,62
  rectangle: 149,61 187,62
  rectangle: -188.67,62 -140.88,63
  rectangle: -86.79,62 -46.54,63
  rectangle: 4,62 41,63
  rectangle: 92,62 126,63
  rectangle: 149,62 187,63
  rectangle: -187.42,63 -139.62,65
  rectangle: -88.05,63 -45.28,65
  rectangle: 3,63 42,65
  rectangle: 91,63 126,65
  rectangle: 149,63 187,65
  rectangle: -187.42,65 -138.36,66
  rectangle: -90.56,65 -44.02,66
  rectangle: 2,65 43,66
  rectangle: 90,65 126,66
  rectangle: 149,65 185,66
  rectangle: -187.42,66 -135.85,67
  rectangle: -91.82,66 -42.77,67
  rectangle: 0,66 46,67
  rectangle: 87,66 126,67
  rectangle: 149,66 185,67
  rectangle: -186.16,67 -134.59,68
  rectangle: -94.34,67 -40.25,68
  rectangle: -2.52,67 48,68
  rectangle: 86,67 126,68
  rectangle: 149,67 185,68
  rectangle: -186.16,68 -132.07,70
  rectangle: -96.85,68 -37.74,70
  rectangle: -3.77,68 51,70
  rectangle: 84,68 126,70
  rectangle: 149,68 184,70
  rectangle: -184.9,70 -128.3,71
  rectangle: -99.37,70 -33.96,71
  rectangle: -7.55,70 53,71
  rectangle: 81,70 126,71
  rectangle: 149,70 184,71
  rectangle: -184.9,71 -123.27,72
  rectangle: -104.4,71 -28.93,72
  rectangle: -11.32,71 58,72
  rectangle: 77,71 184,72
  rectangle: -184.9,72 183,73
  rectangle: -183.64,73 183,75
  rectangle: -183.64,75 182,76
  rectangle: -182.39,76 182,77
  rectangle: -182.39,77 182,78
  rectangle: -182.39,78 180,80
  rectangle: -181.13,80 180,81
  rectangle: -181.13,81 179,82
  rectangle: -179.87,82 179,84
  rectangle: -179.87,84 178,85
  rectangle: -178.61,85 178,86
  rectangle: -178.61,86 177,87
  rectangle: -177.35,87 177,89
  rectangle: -177.35,89 175,90
  rectangle: -176.09,90 175,91
  rectangle: -176.09,91 174,92
  rectangle: -174.84,92 174,94
  rectangle: -174.84,94 173,95
  rectangle: -173.58,95 173,96
  rectangle: -173.58,96 172,97
  rectangle: -172.32,97 172,99
  rectangle: -172.32,99 170,100
  rectangle: -171.06,100 169,101
  rectangle: -169.81,101 169,102
  rectangle: -169.81,102 168,104
  rectangle: -168.55,104 168,105
  rectangle: -167.29,105 167,106
  rectangle: -167.29,106 165,107
  rectangle: -166.04,107 165,109
  rectangle: -166.04,109 164,110
  rectangle: -164.78,110 163,111
  rectangle: -163.52,111 163,112
  rectangle: -163.52,112 162,114
  rectangle: -162.26,114 160,115
  rectangle: -161,115 160,116
  rectangle: -159.74,116 159,117
  rectangle: -159.74,117 158,119
  rectangle: -158.49,119 156,120
  rectangle: -157.23,120 156,121
  rectangle: -155.97,121 155,123
  rectangle: -155.97,123 154,124
  rectangle: -154.71,124 153,125
  rectangle: -153.46,125 151,126
  rectangle: -152.2,126 151,128
  rectangle: -150.94,128 150,129
  rectangle: -149.68,129 149,130
  rectangle: -149.68,130 148,131
  rectangle: -148.43,131 146,133
  rectangle: -147.17,133 145,134
  rectangle: -145.91,134 144,135
  rectangle: -144.65,135 143,136
  rectangle: -143.39,136 141,138
  rectangle: -142.13,138 140,139
  rectangle: -140.88,139 139,140
  rectangle: -139.62,140 138,141
  rectangle: -138.36,141 136,143
  rectangle: -137.1,143 135,144
  rectangle: -135.85,144 134,145
  rectangle: -134.59,145 133,146
  rectangle: -133.33,146 131,148
  rectangle: -132.07,148 130,149
  rectangle: -129.56,149 129,150
  rectangle: -128.3,150 128,151
  rectangle: -127.04,151 126,153
  rectangle: -125.78,153 124,154
  rectangle: -124.52,154 123,155
  rectangle: -122.01,155 121,156
  rectangle: -120.75,156 120,158
  rectangle: -119.49,158 117,159
  rectangle: -116.98,159 116,160
  rectangle: -115.72,160 114,162
  rectangle: -114.46,162 112,163
  rectangle: -111.95,163 111,164
  rectangle: -110.69,164 109,165
  rectangle: -108.17,165 107,167
  rectangle: -105.66,167 105,168
  rectangle: -104.4,168 102,169
  rectangle: -101.89,169 101,170
  rectangle: -100.63,170 99,172
  rectangle: -98.11,172 96,173
  rectangle: -95.59,173 94,174
  rectangle: -93.08,174 92,175
  rectangle: -90.56,175 90,177
  rectangle: -88.05,177 87,178
  rectangle: -85.53,178 85,179
  rectangle: -83.02,179 81,180
  rectangle: -80.5,180 78,182
  rectangle: -76.73,182 76,183
  rectangle: -74.21,183 72,184
  rectangle: -70.44,184 70,185
  rectangle: -67.92,185 66,187
  rectangle: -64.15,187 62,188
  rectangle: -60.37,188 58,189
  rectangle: -55.35,189 55,190
  rectangle: -51.57,190 50,192
  rectangle: -46.54,192 45,193
  rectangle: -40.25,193 38,194
  rectangle: -32.7,194 32,195
  rectangle: -23.9,195 23,197
Top Solder:
  drawing of 1008 lines, arcs and shapes, not listed

## OSSILOGO3030 [mil]
Top Layer:
  drawing of 3876 lines, arcs and shapes, not listed
Top Solder:
  drawing of 3876 lines, arcs and shapes, not listed

## OSSILOGORECT1005 [mil]
Top Layer:
  drawing of 1725 lines, arcs and shapes, not listed
Top Solder:
  drawing of 1725 lines, arcs and shapes, not listed